# EAGLE library part SDUINO_V4 (library Bits_library_eagle)
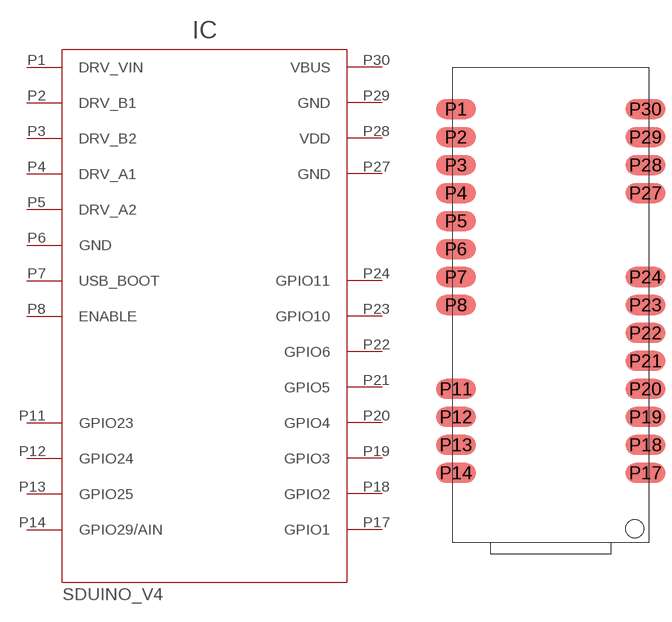
[diagram p40: symbol with the pads of SDUINO_V4_SMD; footprint SDUINO_V4_SMD]

Designator prefix IC

## SDUINO_V4  [SDUINO_V4_SMD]
P1  DRV_VIN  pwr
P2  DRV_B1
P3  DRV_B2
P4  DRV_A1
P5  DRV_A2
P6  GND  pwr
P7  USB_BOOT
P8  ENABLE
P11  GPIO23
P12  GPIO24
P13  GPIO25
P14  GPIO29/AIN
P17  GPIO1
P18  GPIO2
P19  GPIO3
P20  GPIO4
P21  GPIO5
P22  GPIO6
P23  GPIO10
P24  GPIO11
P27  GND  pwr
P28  VDD  pwr
P29  GND  pwr
P30  VBUS  pwr

## Footprint SDUINO_V4_SMD (pad centres in mm)
smd 3.6 x 1.8: P1 -8.6,17.78; P2 -8.6,15.24; P3 -8.6,12.7; P4 -8.6,10.16; P5 -8.6,7.62; P6 -8.6,5.08; P7 -8.6,2.54; P8 -8.6,0; P11 -8.6,-7.62; P12 -8.6,-10.16; P13 -8.6,-12.7; P14 -8.6,-15.24; P17 8.6,-15.24; P18 8.6,-12.7; P19 8.6,-10.16; P20 8.6,-7.62; P21 8.6,-5.08; P22 8.6,-2.54; P23 8.6,0; P24 8.6,2.54; P27 8.6,10.16; P28 8.6,12.7; P29 8.6,15.24; P30 8.6,17.78
hole 1.65 at 7.62,-20.32